# EAGLE library part J-16- (library con-headers-jp)
HEADER JACK PINS
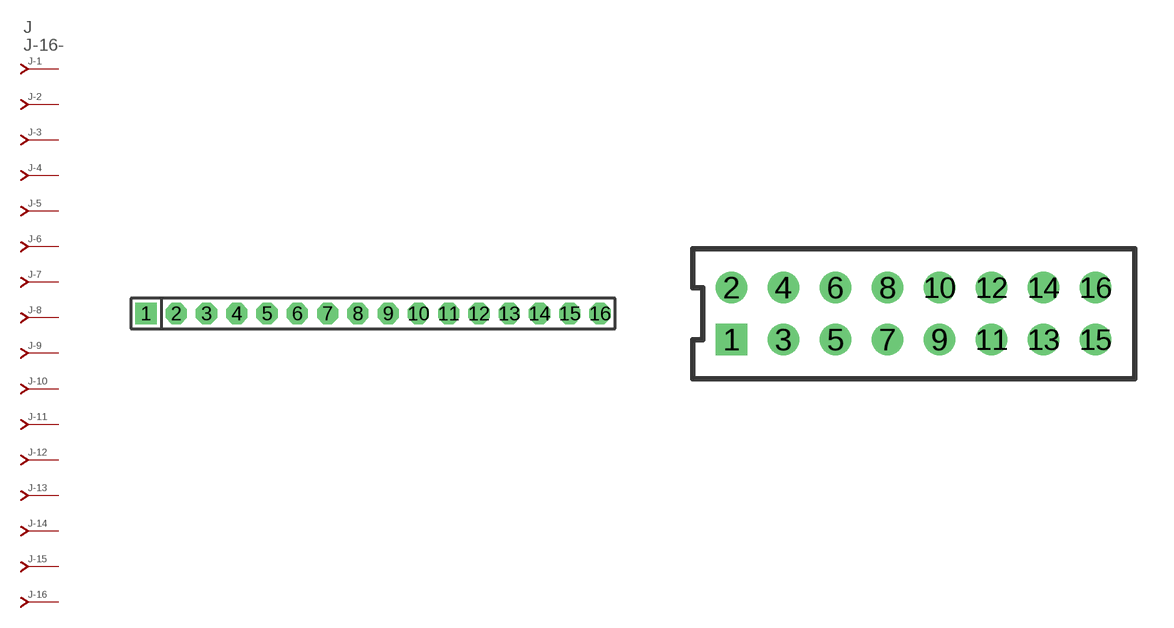
[diagram p5: symbol with the pads of SIP-100-16-40; footprints SIP-100-16-40, 79107-16]

Designator prefix J; gates -2=J-N -3=J-N -4=J-N -5=J-N -6=J-N -7=J-N -8=J-N -9=J-N -10=J-N -11=J-N -12=J-N -13=J-N -14=J-N -15=J-N -16=J-N -1=J-NV

## J-16-SIP-100-40  [SIP-100-16-40]
1  -1:J  pas
2  -2:J  pas
3  -3:J  pas
4  -4:J  pas
5  -5:J  pas
6  -6:J  pas
7  -7:J  pas
8  -8:J  pas
9  -9:J  pas
10  -10:J  pas
11  -11:J  pas
12  -12:J  pas
13  -13:J  pas
14  -14:J  pas
15  -15:J  pas
16  -16:J  pas

## J-16-79107  [79107-16]
Pads as for SIP-100-16-40

## J-16-79109  [79109-16]
Pads as for SIP-100-16-40

## J-16-87264  [87264-16]
Pads as for SIP-100-16-40

## J-16-87368  [87368-16]
Pads as for SIP-100-16-40

## J-16-535512  [535512-16]
Pads as for SIP-100-16-40

## J-16-87340  [87340-16]
Pads as for SIP-100-16-40

## J-16-100-2X08  [DIL-100-2X08]
Pads as for SIP-100-16-40

## J-16-100-2X08_M  [DIL-100-2X08_M]
Pads as for SIP-100-16-40

## J-16-2MM-2X08  [DIL-2MM-2X08]
Pads as for SIP-100-16-40

## J-16-2MM-2X08_M  [DIL-2MM-2X08_M]
Pads as for SIP-100-16-40

## J-16-SIP-100-32  [SIP-100-16-32]
Pads as for SIP-100-16-40

## J-16-SIP-100-40Y  [SIP-100-16-40Y]
Pads as for SIP-100-16-40

## J-16-SIP-100-32Y  [SIP-100-16-32Y]
Pads as for SIP-100-16-40

## J-16-71991  [71991-16]
Pads as for SIP-100-16-40

## J-16-KK-4455-B16  [KK-4455-B16]
Pads as for SIP-100-16-40

## J-16-KK-4455-A16  [KK-4455-A16]
Pads as for SIP-100-16-40

## J-16-KK-4455-C16  [KK-4455-C16]
Pads as for SIP-100-16-40

## Footprint SIP-100-16-40 (pad centres in mm)
SIP Header - 0.1", 40 mil drill
drill 1.016 pad 1.778 square: 1 -19.05,0
drill 1.016 pad 1.778 octagon: 2 -16.51,0; 3 -13.97,0; 4 -11.43,0; 5 -8.89,0; 6 -6.35,0; 7 -3.81,0; 8 -1.27,0; 9 1.27,0; 10 3.81,0; 11 6.35,0; 12 8.89,0; 13 11.43,0; 14 13.97,0; 15 16.51,0; 16 19.05,0

## Footprint 79107-16 (pad centres in mm)
Molex Board-To-Board Receptacal 2.00mm (.079") Pitch Milli-Grid Header, Vertical, Through-Hole Mates with: 87759, 87762, 87758, 87760
drill 0.711 square: 1 -7,-1
drill 0.711 round: 2 -7,1; 3 -5,-1; 4 -5,1; 5 -3,-1; 6 -3,1; 7 -1,-1; 8 -1,1; 9 1,-1; 10 1,1; 11 3,-1; 12 3,1; 13 5,-1; 14 5,1; 15 7,-1; 16 7,1

## Footprint 79109-16 (pad centres in mm)
Molex Board-to-Board Receptacal 2.00mm (.079") Pitch Milli-Grid Header, Vertical, Top/Bottom Entry Mates with: 87758, 87759, 87760, 87831, 87832, 87833
smd 1.12 x 1.83: 1 -7,-2.65; 2 -7,2.65; 3 -5,-2.65; 4 -5,2.65; 5 -3,-2.65; 6 -3,2.65; 7 -1,-2.65; 8 -1,2.65; 9 1,-2.65; 10 1,2.65; 11 3,-2.65; 12 3,2.65; 13 5,-2.65; 14 5,2.65; 15 7,-2.65; 16 7,2.65
hole 0.914 at -6,0
hole 0.914 at -7,1
hole 0.914 at -7,-1
hole 0.914 at -5,-1
hole 0.914 at -5,1
hole 0.914 at -3,-1
hole 0.914 at -3,1
hole 0.914 at 6,0
hole 0.914 at -1,1
hole 0.914 at -1,-1
hole 0.914 at 1,1
hole 0.914 at 1,-1
hole 0.914 at 3,1
hole 0.914 at 3,-1
hole 0.914 at 5,1
hole 0.914 at 5,-1
hole 0.914 at 7,-1
hole 0.914 at 7,1

## Footprint 87264-16 (pad centres in mm)
Molex Board-To-Board Receptacal 2.00mm (.079") Pitch Milli-Grid Header, Side Entry Mates with 2mm(.079") Mill-Grid Header
drill 0.914 square: 1 -7,-2.25
drill 0.914 round: 2 -7,2.25; 3 -5,-2.25; 4 -5,2.25; 5 -3,-2.25; 6 -3,2.25; 7 -1,-2.25; 8 -1,2.25; 9 1,-2.25; 10 1,2.25; 11 3,-2.25; 12 3,2.25; 13 5,-2.25; 14 5,2.25; 15 7,-2.25; 16 7,2.25

## Footprint 87368-16 (pad centres in mm)
Molex Board-To-Board Receptacal 2.00mm (.079") Pitch Milli-Grid Header, Side Entry SMD Mates with 2mm(.079") Mill-Grid Header
smd 1 x 2.8: 1 -7,-3.1; 2 -7,3.1; 3 -5,-3.1; 4 -5,3.1; 5 -3,-3.1; 6 -3,3.1; 7 -1,-3.1; 8 -1,3.1; 9 1,-3.1; 10 1,3.1; 11 3,-3.1; 12 3,3.1; 13 5,-3.1; 14 5,3.1; 15 7,-3.1; 16 7,3.1
hole 0.914 at -7,0
hole 0.914 at 0,0

## Footprint 535512-16 (pad centres in mm)
AMPMODU - 535512 Series
drill 1.016 square: 1 -8.89,0
drill 1.016 octagon: 2 -8.89,7.938; 3 -6.35,0; 4 -6.35,7.938; 5 -3.81,0; 6 -3.81,7.938; 7 -1.27,0; 8 -1.27,7.938; 9 1.27,0; 10 1.27,7.938; 11 3.81,0; 12 3.81,7.938; 13 6.35,0; 14 6.35,7.938; 15 8.89,0; 16 8.89,7.938

## Footprint 87340-16 (pad centres in mm)
Molex Board-To-Board Receptacal 2.00mm (.079") Pitch Milli-Grid Header, Vertical, Top/Bottom Entry Mates with: 87758, 87759, 87760, 87831, 87832, 87833
smd 1 x 1.75: 1 -7,-2.5; 2 -7,2.5; 3 -5,-2.5; 4 -5,2.5; 5 -3,-2.5; 6 -3,2.5; 7 -1,-2.5; 8 -1,2.5; 9 1,2.5; 10 1,-2.5; 11 3,-2.5; 12 3,2.5; 13 5,2.5; 14 5,-2.5; 15 7,-2.5; 16 7,2.5
hole 0.914 at -8,0
hole 0.914 at -7,1
hole 0.914 at -7,-1
hole 0.914 at -5,-1
hole 0.914 at -5,1
hole 0.914 at 8,0
hole 0.914 at -3,1
hole 0.914 at -3,-1
hole 0.914 at -1,1
hole 0.914 at -1,-1
hole 0.914 at 1,-1
hole 0.914 at 1,1
hole 0.914 at 3,1
hole 0.914 at 3,-1
hole 0.914 at 5,1
hole 0.914 at 5,-1
hole 0.914 at 7,1
hole 0.914 at 7,-1

## Footprint DIL-100-2X08 (pad centres in mm)
PIN HEADER - 0.1"
drill 1.016 square: 1 -8.89,-1.27
drill 1.016 octagon: 2 -8.89,1.27; 3 -6.35,-1.27; 4 -6.35,1.27; 5 -3.81,-1.27; 6 -3.81,1.27; 7 -1.27,-1.27; 8 -1.27,1.27; 9 1.27,-1.27; 10 1.27,1.27; 11 3.81,-1.27; 12 3.81,1.27; 13 6.35,-1.27; 14 6.35,1.27; 15 8.89,-1.27; 16 8.89,1.27

## Footprint DIL-100-2X08_M (pad centres in mm)
PIN HEADER - MIRRORED 0.1"
drill 1.016 square: 1 -8.89,1.27
drill 1.016 octagon: 2 -8.89,-1.27; 3 -6.35,1.27; 4 -6.35,-1.27; 5 -3.81,1.27; 6 -3.81,-1.27; 7 -1.27,1.27; 8 -1.27,-1.27; 9 1.27,1.27; 10 1.27,-1.27; 11 3.81,1.27; 12 3.81,-1.27; 13 6.35,1.27; 14 6.35,-1.27; 15 8.89,1.27; 16 8.89,-1.27

## Footprint DIL-2MM-2X08 (pad centres in mm)
PIN HEADER - 2MM"
drill 0.711 square: 1 -7,-1
drill 0.711 round: 2 -7,1; 3 -5,-1; 4 -5,1; 5 -3,-1; 6 -3,1; 7 -1,-1; 8 -1,1; 9 1,-1; 10 1,1; 11 3,-1; 12 3,1; 13 5,-1; 14 5,1; 15 7,-1; 16 7,1

## Footprint DIL-2MM-2X08_M (pad centres in mm)
PIN HEADER - MIRRORED 2MM
drill 0.711 square: 1 -7,1
drill 0.711 round: 2 -7,-1; 3 -5,1; 4 -5,-1; 5 -3,1; 6 -3,-1; 7 -1,1; 8 -1,-1; 9 1,1; 10 1,-1; 11 3,1; 12 3,-1; 13 5,1; 14 5,-1; 15 7,1; 16 7,-1

## Footprint SIP-100-16-32 (pad centres in mm)
SIP Header - 0.1", 32 mil drill
drill 0.813 pad 1.778 square: 1 -19.05,0
drill 0.813 pad 1.778 octagon: 2 -16.51,0; 3 -13.97,0; 4 -11.43,0; 5 -8.89,0; 6 -6.35,0; 7 -3.81,0; 8 -1.27,0; 9 1.27,0; 10 3.81,0; 11 6.35,0; 12 8.89,0; 13 11.43,0; 14 13.97,0; 15 16.51,0; 16 19.05,0

## Footprint SIP-100-16-40Y (pad centres in mm)
SIP Header - 0.1", 40 mil drill
drill 1.016 long: 1 -19.05,0; 2 -16.51,0; 3 -13.97,0; 4 -11.43,0; 5 -8.89,0; 6 -6.35,0; 7 -3.81,0; 8 -1.27,0; 9 1.27,0; 10 3.81,0; 11 6.35,0; 12 8.89,0; 13 11.43,0; 14 13.97,0; 15 16.51,0; 16 19.05,0

## Footprint SIP-100-16-32Y (pad centres in mm)
SIP Header - 0.1", 32 mil drill
drill 0.813 long: 1 -19.05,0; 2 -16.51,0; 3 -13.97,0; 4 -11.43,0; 5 -8.89,0; 6 -6.35,0; 7 -3.81,0; 8 -1.27,0; 9 1.27,0; 10 3.81,0; 11 6.35,0; 12 8.89,0; 13 11.43,0; 14 13.97,0; 15 16.51,0; 16 19.05,0

## Footprint 71991-16 (pad centres in mm)
FCI - Dual Entry Female Pass Through, 0.1" spacing
drill 0.813 square: 1 -8.89,-3.81
drill 0.813 octagon: 2 -8.89,3.81; 3 -6.35,-3.81; 4 -6.35,3.81; 5 -3.81,-3.81; 6 -3.81,3.81; 7 -1.27,-3.81; 8 -1.27,3.81; 9 1.27,-3.81; 10 1.27,3.81; 11 3.81,-3.81; 12 3.81,3.81; 13 6.35,-3.81; 14 6.35,3.81; 15 8.89,-3.81; 16 8.89,3.81
hole 1.422 at -8.89,-1.27
hole 1.422 at -8.89,1.27
hole 1.422 at -6.35,1.27
hole 1.422 at -6.35,-1.27
hole 1.422 at -3.81,1.27
hole 1.422 at -3.81,-1.27
hole 1.422 at -1.27,1.27
hole 1.422 at -1.27,-1.27
hole 1.422 at 1.27,1.27
hole 1.422 at 1.27,-1.27
hole 1.422 at 3.81,1.27
hole 1.422 at 3.81,-1.27
hole 1.422 at 6.35,1.27
hole 1.422 at 6.35,-1.27
hole 1.422 at 8.89,1.27
hole 1.422 at 8.89,-1.27

## Footprint KK-4455-B16 (pad centres in mm)
KK100 Molex 4455 Series, Vertical, Bottom Entry, 0.1" pitch
drill 1.067 long: 1 -19.05,0; 2 -16.51,0; 3 -13.97,0; 4 -11.43,0; 5 -8.89,0; 6 -6.35,0; 7 -3.81,0; 8 -1.27,0; 9 1.27,0; 10 3.81,0; 11 6.35,0; 12 8.89,0; 13 11.43,0; 14 13.97,0; 15 16.51,0; 16 19.05,0
hole 1.778 at -19.05,3.81
hole 1.778 at -16.51,3.81
hole 1.778 at -13.97,3.81
hole 1.778 at -11.43,3.81
hole 1.778 at -8.89,3.81
hole 1.778 at -6.35,3.81
hole 1.778 at -3.81,3.81
hole 1.778 at -1.27,3.81
hole 1.778 at 1.27,3.81
hole 1.778 at 3.81,3.81
hole 1.778 at 6.35,3.81
hole 1.778 at 8.89,3.81
hole 1.778 at 11.43,3.81
hole 1.778 at 13.97,3.81
hole 1.778 at 16.51,3.81
hole 1.778 at 19.05,3.81

## Footprint KK-4455-A16 (pad centres in mm)
KK100 Molex 4455 Series, Right Angle, 0.1" pitch
drill 1.067 long: 1 -19.05,0; 2 -16.51,0; 3 -13.97,0; 4 -11.43,0; 5 -8.89,0; 6 -6.35,0; 7 -3.81,0; 8 -1.27,0; 9 1.27,0; 10 3.81,0; 11 6.35,0; 12 8.89,0; 13 11.43,0; 14 13.97,0; 15 16.51,0; 16 19.05,0

## Footprint KK-4455-C16 (pad centres in mm)
KK100 Molex 4455 Series, Vertical, Top Entry, 0.1" pitch
drill 1.016 pad 1.778 octagon: 1 -19.05,0; 2 -16.51,0; 3 -13.97,0; 4 -11.43,0; 5 -8.89,0; 6 -6.35,0; 7 -3.81,0; 8 -1.27,0; 9 1.27,0; 10 3.81,0; 11 6.35,0; 12 8.89,0; 13 11.43,0; 14 13.97,0; 15 16.51,0; 16 19.05,0
hole 1.778 at -19.05,2.54
hole 1.778 at -16.51,2.54
hole 1.778 at -13.97,2.54
hole 1.778 at -11.43,2.54
hole 1.778 at -8.89,2.54
hole 1.778 at -6.35,2.54
hole 1.778 at -3.81,2.54
hole 1.778 at -1.27,2.54
hole 1.778 at 1.27,2.54
hole 1.778 at 3.81,2.54
hole 1.778 at 6.35,2.54
hole 1.778 at 8.89,2.54
hole 1.778 at 11.43,2.54
hole 1.778 at 13.97,2.54
hole 1.778 at 16.51,2.54
hole 1.778 at 19.05,2.54